# Altium footprint library SOT.PcbLib: 7 footprints
Each footprint in its own frame and in the unit in brackets; x right, y up, seen from the top. Pads: shape width x height; smd on the part's side, far side on the other; paste and mask are expansions set on the pad; w line width, h text height; cw(c..) or ccw(c..) is an arc to the next point about the centre after c.
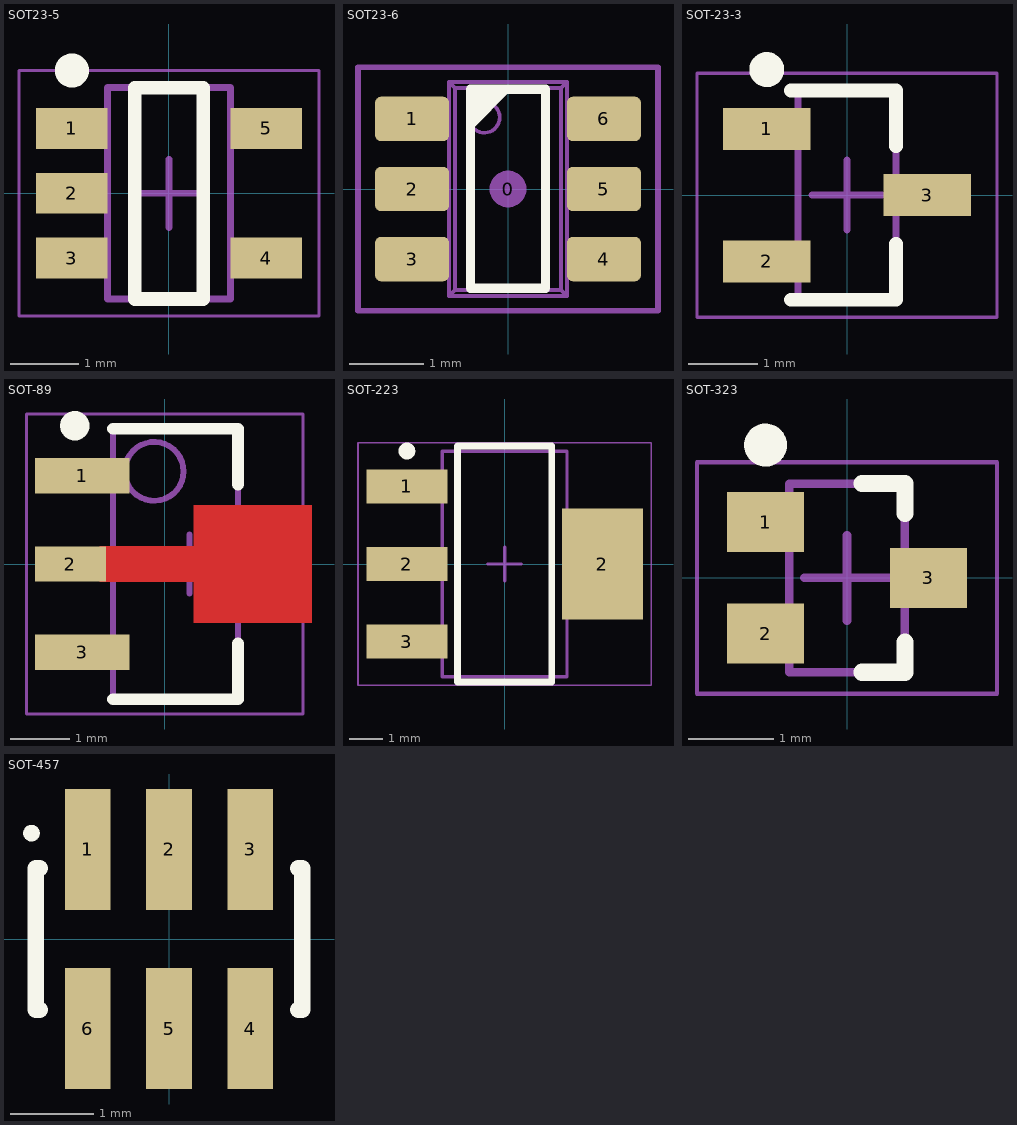
[diagram p0: the footprints below, top view; thin cyan lines are the x and y axes]

## SOT23-5 [mm] "SOT23, 5-Leads, Body 2,90x2,70mm, Pitch 0,95mm, IPC Medium Density"
height 1.45
pads (5):
  rect 1.05x0.6 smd: 1(-1.425,0.95) 2(-1.425,0) 3(-1.425,-0.95) 4(1.425,-0.95) 5(1.425,0.95)
Top Overlay:
  circle w0.25: c-1.425,1.8 r0.125
  lines w0.2: -0.5,-1.55 -0.5,1.55 0.5,1.55 0.5,-1.55 -0.5,-1.55
Mechanical 13:
  lines w0.1: -0.9,-1.55 0.9,-1.55 0.9,1.55 -0.9,1.55 -0.9,-1.55
Mechanical 15:
  lines w0.05: -2.2,-1.8 2.2,-1.8 2.2,1.8 -2.2,1.8 -2.2,-1.8
  lines w0.1: -0.5,0 0.5,0 ; 0,-0.5 0,0.5
3D body "User Library-SOT23-5-2.step": height 1.45, standoff 0, extent -1.4,-1.45 1.4,1.45

## SOT23-6 [mm]
height 1.6
pads (7):
  round 0.5 on Mech15: 0(0,0)
  rrect25% 1x0.6 smd: 1(-1.3,0.95) 2(-1.3,0) 3(-1.3,-0.95) 4(1.3,-0.95) 5(1.3,0) 6(1.3,0.95)
Top Overlay:
  region: -0.508,1.353 0.053,1.353 -0.508,0.792
  lines w0.127: -0.508,-1.347 0.508,-1.347 0.508,1.353 -0.508,1.353 -0.508,-1.347
  text "." at -2.275,0.95 h0.1
Mechanical 13:
  circle w0.05: c-0.32,0.97 r0.208
  lines w0.05: -1.191,-1.15 -1.191,-0.75 ; -1.191,-0.2 -1.191,0.2 ; -1.191,0.75 -1.191,1.15 ; -1.1,-1.15 -1.1,-0.75 ; -1.1,-0.2 -1.1,0.2 ; -1.1,0.75 -1.1,1.15 ; -1.094,-1.15 -1.094,-0.75 ; -1.094,-0.2 -1.094,0.2 ; -1.094,0.75 -1.094,1.15 ; -0.844,-1.15 -0.844,-0.75 ; -0.844,-0.2 -0.844,0.2 ; -0.844,0.75 -0.844,1.15 ; -0.8,-1.15 -1.4,-1.15 -1.4,-0.75 -0.8,-0.75 ; -0.8,-0.2 -1.4,-0.2 -1.4,0.2 -0.8,0.2 ; -0.8,0.75 -1.4,0.75 -1.4,1.15 -0.8,1.15 ; 0.8,-1.15 1.4,-1.15 1.4,-0.75 0.8,-0.75 ; 0.8,-0.2 1.4,-0.2 1.4,0.2 0.8,0.2 ; 0.8,0.75 1.4,0.75 1.4,1.15 0.8,1.15 ; 0.844,-1.15 0.844,-0.75 ; 0.844,-0.2 0.844,0.2 ; 0.844,0.75 0.844,1.15 ; 1.094,-1.15 1.094,-0.75 ; 1.094,-0.2 1.094,0.2 ; 1.094,0.75 1.094,1.15 ; 1.1,-1.15 1.1,-0.75 ; 1.1,-0.2 1.1,0.2 ; 1.1,0.75 1.1,1.15 ; 1.191,-1.15 1.191,-0.75 ; 1.191,-0.2 1.191,0.2 ; 1.191,0.75 1.191,1.15 ; -0.8,-1.45 -0.8,1.45 ; -0.8,-1.45 -0.719,-1.369 ; -0.8,-1.45 0.8,-1.45 ; -0.8,1.45 -0.719,1.369 ; -0.8,1.45 0.8,1.45 ; -0.719,-1.369 0.719,-1.369 ; -0.719,-1.369 -0.719,1.369 ; -0.719,1.369 0.719,1.369 ; 0.719,-1.369 0.8,-1.45 ; 0.719,-1.369 0.719,1.369 ; 0.719,1.369 0.8,1.45 ; 0.8,-1.45 0.8,1.45
Mechanical 15:
  lines w0.076: -2.032,-1.651 2.032,-1.651 2.032,1.651 -2.032,1.651 -2.032,-1.651
3D body "SOT23-6.STEP": height 1.44, standoff -0.01, extent -1.4,-1.45 1.4,1.45

## SOT-23-3 [mm] "SOT23, 3-Leads, Body 2,90x2,80mm, Pitch 0,95mm, IPC Medium Density"
height 1.12
pads (3):
  rect 1.25x0.6 smd: 1(-1.15,0.95) 2(-1.15,-0.95) 3(1.15,0)
Top Overlay:
  circle w0.25: c-1.15,1.8 r0.125
  lines w0.2: -0.8,-1.5 0.7,-1.5 0.7,-0.7 ; -0.8,1.5 0.7,1.5 0.7,0.7
Mechanical 13:
  lines w0.1: -0.7,-1.5 0.7,-1.5 0.7,1.5 -0.7,1.5 -0.7,-1.5
Mechanical 15:
  lines w0.05: -2.15,-1.75 2.15,-1.75 2.15,1.75 -2.15,1.75 -2.15,-1.75
  lines w0.1: -0.5,0 0.5,0 ; 0,-0.5 0,0.5
3D body "CircuitWorks-SOT-23.step": height 1.05, standoff -0.05, extent -1.25,-1.5 1.25,1.5

## SOT-89 [mm] "SOT89, 3-Leads, Body 4.50x2.50mm, Pitch 1.50mm, Lead Span 3.3mm, IPC Medium Density"
height 1.6
pads (3):
  rect 1.6x0.6 smd: 1(-1.4,1.5) 3(-1.4,-1.5)
  rect 1.2x0.6 smd: 2(-1.6,0)
Top Layer:
  region: -1.1,0.3 0.6,0.3 0.6,-0.3 -1.1,-0.3
  region: 0.5,-1 0.5,1 2.5,1 2.5,-1
Top Overlay:
  circle w0.25: c-1.528,2.35 r0.125
  lines w0.2: -0.878,-2.3 1.25,-2.3 1.25,-1.35 ; -0.878,2.3 1.25,2.3 1.25,1.35
Mechanical 13:
  circle w0.1: c-0.178,1.575 r0.5
  lines w0.1: -0.878,-2.3 -0.878,2.3 1.25,2.3 1.25,-2.3 -0.878,-2.3
Mechanical 15:
  lines w0.05: -2.35,-2.55 -2.35,2.55 2.35,2.55 2.35,-2.55 -2.35,-2.55
  lines w0.1: -0.078,0 0.923,0 ; 0.422,-0.5 0.422,0.5
3D body "SOT-89.STEP": height 1.5, standoff 0, extent -2.05,-2.25 2.1,2.25

## SOT-223 [mm] "SOT223, 4-Leads, Body 6,50x7,00mm (avg), Pitch 2,30mm, IPC Medium Density"
height 1.8
pads (4):
  rect 2.4x1 smd: 1(-2.9,2.3) 2(-2.9,0) 3(-2.9,-2.3)
  rect 2.4x3.3 smd: 2(2.9,0)
Top Overlay:
  circle w0.25: c-2.9,3.35 r0.125
  lines w0.2: -1.4,-3.5 1.4,-3.5 1.4,3.5 -1.4,3.5 -1.4,-3.5
Mechanical 13:
  lines w0.1: -1.85,-3.35 1.85,-3.35 1.85,3.35 -1.85,3.35 -1.85,-3.35
Mechanical 15:
  lines w0.05: -4.35,-3.6 4.35,-3.6 4.35,3.6 -4.35,3.6 -4.35,-3.6
  lines w0.1: -0.5,0 0.5,0 ; 0,-0.5 0,0.5
3D body "User Library-SOT-223-1.step": height 1.64, standoff -0.01, extent -3.5,-3.25 3.5,3.25

## SOT-323 [mm] "SOT23, 3-Leads, Body 2,00x2,28mm, Pitch 0,65mm, IPC Medium Density"
height 1
pads (3):
  rect 0.9x0.7 smd: 1(-0.95,0.65) 2(-0.95,-0.65) 3(0.95,0)
Top Overlay:
  circle w0.25: c-0.95,1.55 r0.125
  lines w0.2: 0.175,-1.1 0.675,-1.1 0.675,-0.75 ; 0.175,1.1 0.675,1.1 0.675,0.75
Mechanical 13:
  lines w0.1: -0.675,-1.1 0.675,-1.1 0.675,1.1 -0.675,1.1 -0.675,-1.1
Mechanical 15:
  lines w0.05: -1.75,-1.35 1.75,-1.35 1.75,1.35 -1.75,1.35 -1.75,-1.35
  lines w0.1: -0.5,0 0.5,0 ; 0,-0.5 0,0.5
3D body "User Library-SOT323 (SC70-3)-1.STEP": height 1.1, standoff 0, extent -1.122,-1.1 1.123,1.1

## SOT-457 [mm] "SOT-457/SC-74; 6 Leads; Body 3.1 x 2.9 mm, inc. leads (LxW max)"
height 1.1
pads (6):
  rect 0.55x1.45 smd: 1(-0.975,1.075) 2(0,1.075) 3(0.975,1.075) 4(0.975,-1.075) 5(0,-1.075) 6(-0.975,-1.075)
Top Overlay:
  circle w0.1: c-1.651,1.27 r0.05
  lines w0.2: -1.55,-0.85 -1.6,-0.85 -1.6,0.85 -1.55,0.85 ; 1.55,-0.85 1.6,-0.85 1.6,0.85 1.55,0.85
3D body "SOT457.STEP": height 0.98, standoff -0.02, extent -1.501,-1.429 1.499,1.371